# Altium schematic symbol library OPA4990IDR.Schlib: 1 symbol
Pins are listed as number, name and electrical type; pins without a type are passive.

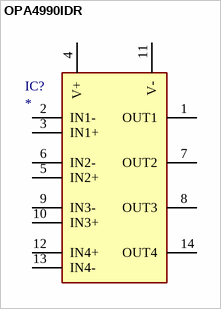
[diagram p0: symbol OPA4990IDR]

## OPA4990IDR
designator IC?
Integrated Circuit
pins: 1 OUT1, 2 IN1-, 3 IN1+, 4 V+, 5 IN2+, 6 IN2-, 7 OUT2, 8 OUT3, 9 IN3-, 10 IN3+, 11 V-, 12 IN4+, 13 IN4-, 14 OUT4